# Altium footprint library SSQ-108-03-T-S.PcbLib: 1 footprints
Each footprint in its own frame and in the unit in brackets; x right, y up, seen from the top. Pads: shape width x height; smd on the part's side, far side on the other; paste and mask are expansions set on the pad; w line width, h text height; cw(c..) or ccw(c..) is an arc to the next point about the centre after c.
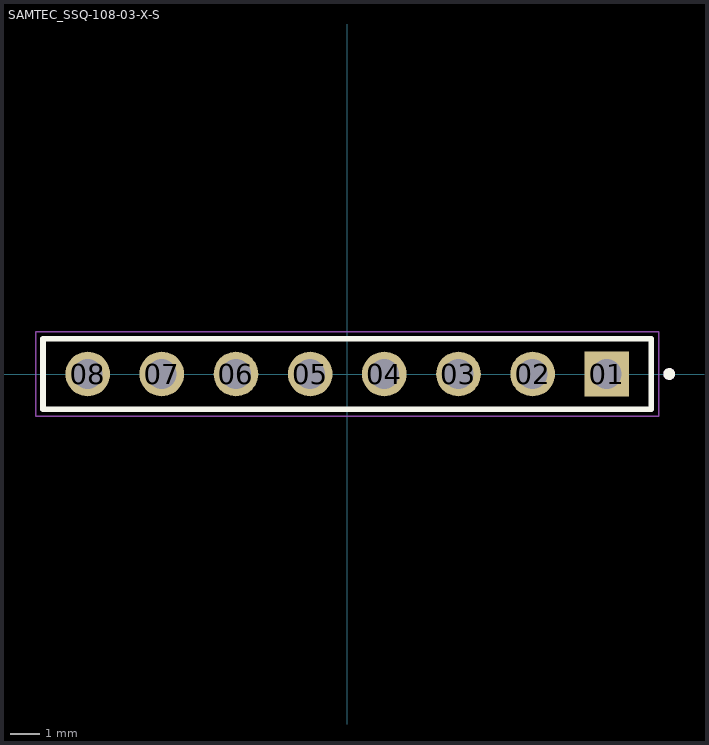
[diagram p0: the footprint, top view; thin cyan lines are the x and y axes]

## SAMTEC_SSQ-108-03-X-S [mm]
pads (8):
  rect 1.53x1.53 hole 1.02: 01(8.89,0)
  round 1.53 hole 1.02: 02(6.35,0) 03(3.81,0) 04(1.27,0) 05(-1.27,0) 06(-3.81,0) 07(-6.35,0) 08(-8.89,0)
Top Overlay:
  circle w0.2: c11.03,0 r0.1
  lines w0.2: -10.415,-1.205 10.415,-1.205 10.415,1.205 -10.415,1.205 -10.415,-1.205
Mechanical 13:
  circle w0.2: c11.03,0 r0.1
  lines w0.1: -10.415,-1.205 10.415,-1.205 10.415,1.205 -10.415,1.205 -10.415,-1.205
Mechanical 15:
  lines w0.05: -10.665,-1.455 10.665,-1.455 10.665,1.455 -10.665,1.455 -10.665,-1.455